# EAGLE library part 3PDT (library mb3_switches)
3PDT Switches
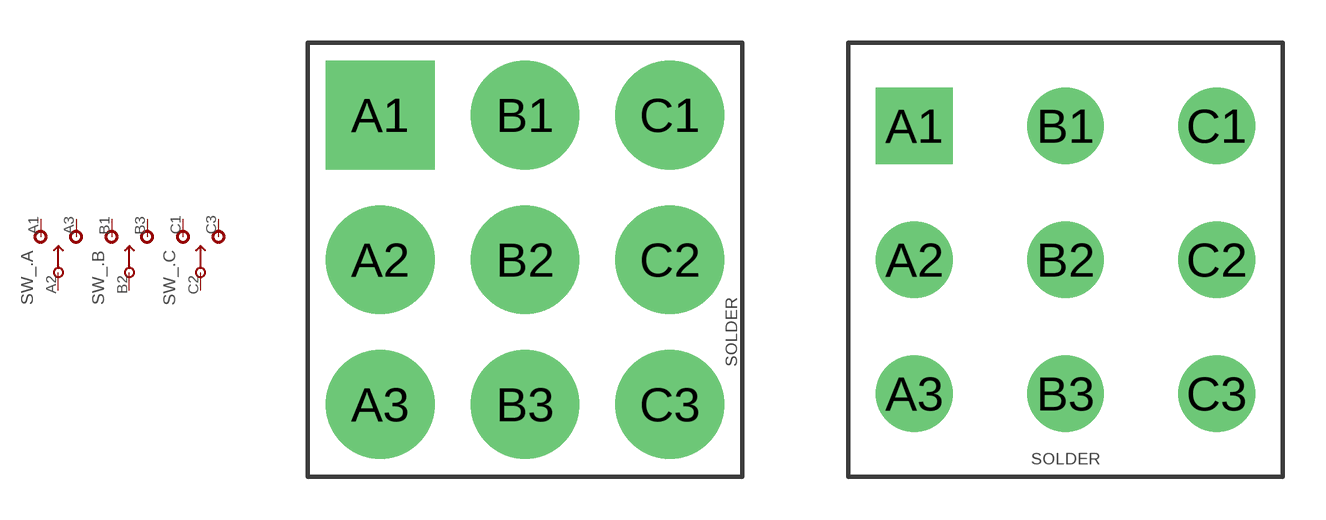
[diagram p4: symbol with the pads of 3PDT.LUGS; footprints 3PDT.LUGS, 3PDT.PINS]

Designator prefix SW_; gates .A=SPDT .B=SPDT .C=SPDT

## 3PDT.LUGS  [3PDT.LUGS]
A1  .A:1  pas
A2  .A:2  pas
A3  .A:3  pas
B1  .B:1  pas
B2  .B:2  pas
B3  .B:3  pas
C1  .C:1  pas
C2  .C:2  pas
C3  .C:3  pas

## 3PDT.PINS  [3PDT.PINS]
Pads as for 3PDT.LUGS

## 3PDT.WIRE  [3PDT.WIRE]
Pads as for 3PDT.LUGS

## 3PDT.TOGGLE  [3PDT.TOGGLE]
Pads as for 3PDT.LUGS

## Footprint 3PDT.LUGS (pad centres in mm)
Latching Footswitch, Solder Lugs http://smallbear-electronics.mybigcommerce.com/cic-blue-3pdt/ Momentary Footswitch, Solder Lugs http://smallbear-electronics.mybigcommerce.com/cic-blue-3pdt-momentary/
drill 2.8 square: A1 -5.08,5.08
drill 2.8: A2 -5.08,0; A3 -5.08,-5.08; B1 0,5.08; B2 0,0; B3 0,-5.08; C1 5.08,5.08; C2 5.08,0; C3 5.08,-5.08

## Footprint 3PDT.PINS (pad centres in mm)
Latching Footswitch, PC Mount http://smallbear-electronics.mybigcommerce.com/cic-blue-3pdt-pc-mount/
drill 1.8 pad 2.54 square: A1 -5.3,4.7
drill 1.8 pad 2.54: A2 -5.3,0; A3 -5.3,-4.7; B1 0,4.7; B2 0,0; B3 0,-4.7; C1 5.3,4.7; C2 5.3,0; C3 5.3,-4.7

## Footprint 3PDT.WIRE (pad centres in mm)
Wire to switch
drill 1.2 pad 2.032 square: A1 -10.16,0
drill 1.2 pad 2.032: A2 -7.62,0; A3 -5.08,0; B1 -2.54,0; B2 0,0; B3 2.54,0; C1 5.08,0; C2 7.62,0; C3 10.16,0

## Footprint 3PDT.TOGGLE (pad centres in mm)
Toogle Switch, Solder Lug http://smallbear-electronics.mybigcommerce.com/3pdt-on-on-short-lever-solder-terminal/
drill 2.4 square: A1 -4.83,4.7
drill 2.4: A2 -4.83,0; A3 -4.83,-4.7; B1 0,4.7; B2 0,0; B3 0,-4.7; C1 4.83,4.7; C2 4.83,0; C3 4.83,-4.7